# Altium integrated library Altium_WCAP-ASLL (rev20b).IntLib: 95 symbols (part 2 of 2)
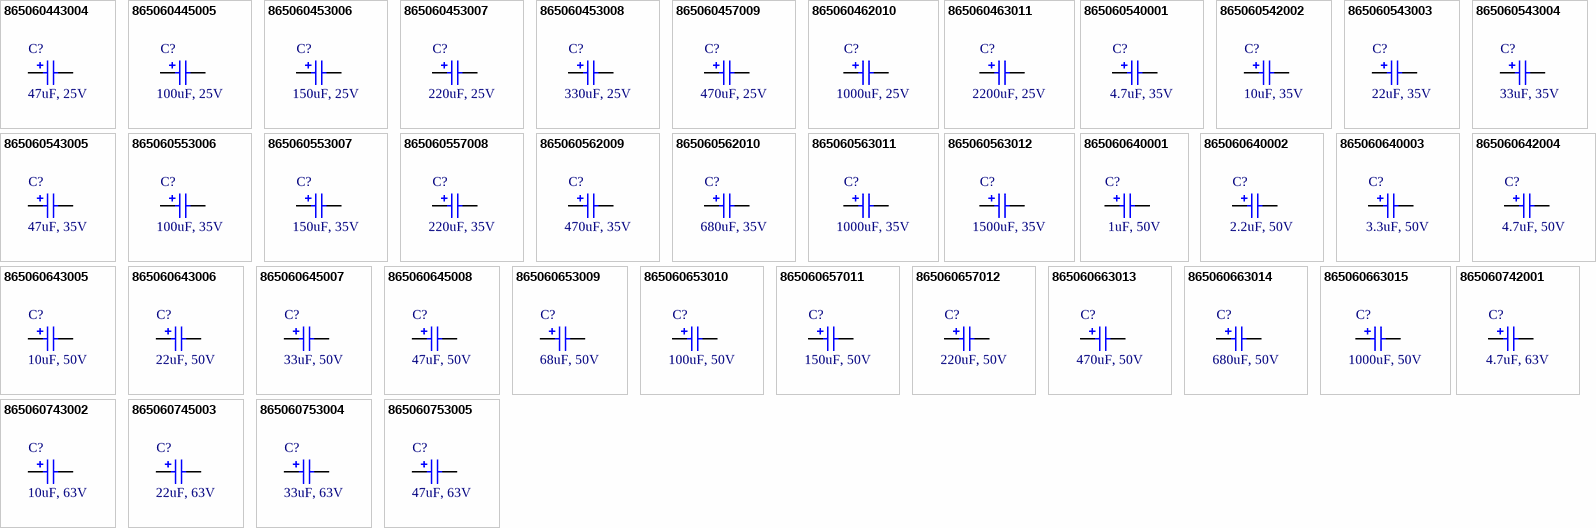
[diagram p3: symbols 865060443004 to 865060753005]

## 865060640002
designator C?, comment 2.2uF, 50V
WCAP-ASLL Aluminum Electrolytic Capacitor, V-Chip, SMT, D4xH5.5mm, 2.2uF, 50V; Manufacturer Part Number: 865060640002; Manufacturer: Wurth Elektronik; Technical Reference: ASEB0552R2M050DVCTAB000; Ripple Current: 60mA; Capacitance Tolerance: +/-20%; Rated Voltage: 50VDC; Dissipation Factor: 12%; Endurance: 2000h; Leakage Current: 3uA; Operating Temperature: -55 to +105degC; Mounting Technology: SMT; ComponentLink1URL: http://www.we-online.de; ComponentLink1Description: Manufacturer; Packaging: Tape and Reel; Published Date: October 2020; ComponentLink2Description: Datasheet; ComponentLink2URL: https://www.we-online.com/catalog/datasheet/865060640002.pdf; Diameter: 4mm; Capacitance: 2.2uF; Height: 5.5mm
footprint WCAP-ASLL_D4H5.5
pins: 1 P, 2 N

## 865060640003
designator C?, comment 3.3uF, 50V
WCAP-ASLL Aluminum Electrolytic Capacitor, V-Chip, SMT, D4xH5.5mm, 3.3uF, 50V; Manufacturer Part Number: 865060640003; Manufacturer: Wurth Elektronik; Technical Reference: ASEB0553R3M050DVCTAB000; Ripple Current: 60mA; Capacitance Tolerance: +/-20%; Rated Voltage: 50VDC; Dissipation Factor: 12%; Endurance: 2000h; Leakage Current: 3uA; Operating Temperature: -55 to +105degC; Mounting Technology: SMT; ComponentLink1URL: http://www.we-online.de; ComponentLink1Description: Manufacturer; Packaging: Tape and Reel; Published Date: October 2020; ComponentLink2Description: Datasheet; ComponentLink2URL: https://www.we-online.com/catalog/datasheet/865060640003.pdf; Diameter: 4mm; Capacitance: 3.3uF; Height: 5.5mm
footprint WCAP-ASLL_D4H5.5
pins: 1 P, 2 N

## 865060642004
designator C?, comment 4.7uF, 50V
WCAP-ASLL Aluminum Electrolytic Capacitor, V-Chip, SMT, D5xH5.5mm, 4.7uF, 50V; Manufacturer Part Number: 865060642004; Manufacturer: Wurth Elektronik; Technical Reference: ASEC0554R7M050DVCTBB000; Ripple Current: 85mA; Capacitance Tolerance: +/-20%; Rated Voltage: 50VDC; Dissipation Factor: 12%; Endurance: 2000h; Leakage Current: 3uA; Operating Temperature: -55 to +105degC; Mounting Technology: SMT; ComponentLink1URL: http://www.we-online.de; ComponentLink1Description: Manufacturer; Packaging: Tape and Reel; Published Date: October 2020; ComponentLink2Description: Datasheet; ComponentLink2URL: https://www.we-online.com/catalog/datasheet/865060642004.pdf; Diameter: 5mm; Capacitance: 4.7uF; Height: 5.5mm
footprint WCAP-ASLL_D5H5.5
pins: 1 P, 2 N

## 865060643005
designator C?, comment 10uF, 50V
WCAP-ASLL Aluminum Electrolytic Capacitor, V-Chip, SMT, D6.3xH5.5mm, 10uF, 50V; Manufacturer Part Number: 865060643005; Manufacturer: Wurth Elektronik; Technical Reference: ASED055100M050DVCTBB000; Ripple Current: 165mA; Capacitance Tolerance: +/-20%; Rated Voltage: 50VDC; Dissipation Factor: 12%; Endurance: 2000h; Leakage Current: 5uA; Operating Temperature: -55 to +105degC; Mounting Technology: SMT; ComponentLink1URL: http://www.we-online.de; ComponentLink1Description: Manufacturer; Packaging: Tape and Reel; Published Date: October 2020; ComponentLink2Description: Datasheet; ComponentLink2URL: https://www.we-online.com/catalog/datasheet/865060643005.pdf; Diameter: 6.3mm; Capacitance: 10uF; Height: 5.5mm
footprint WCAP-ASLL_D6.3H5.5
pins: 1 P, 2 N

## 865060643006
designator C?, comment 22uF, 50V
WCAP-ASLL Aluminum Electrolytic Capacitor, V-Chip, SMT, D6.3xH5.5mm, 22uF, 50V; Manufacturer Part Number: 865060643006; Manufacturer: Wurth Elektronik; Technical Reference: ASED055220M050DVCTBB000; Ripple Current: 165mA; Capacitance Tolerance: +/-20%; Rated Voltage: 50VDC; Dissipation Factor: 12%; Endurance: 2000h; Leakage Current: 11uA; Operating Temperature: -55 to +105degC; Mounting Technology: SMT; ComponentLink1URL: http://www.we-online.de; ComponentLink1Description: Manufacturer; Packaging: Tape and Reel; Published Date: October 2020; ComponentLink2Description: Datasheet; ComponentLink2URL: https://www.we-online.com/catalog/datasheet/865060643006.pdf; Diameter: 6.3mm; Capacitance: 22uF; Height: 5.5mm
footprint WCAP-ASLL_D6.3H5.5
pins: 1 P, 2 N

## 865060645007
designator C?, comment 33uF, 50V
WCAP-ASLL Aluminum Electrolytic Capacitor, V-Chip, SMT, D6.3xH7.7mm, 33uF, 50V; Manufacturer Part Number: 865060645007; Manufacturer: Wurth Elektronik; Technical Reference: ASED077330M050DVCTCB000; Ripple Current: 185mA; Capacitance Tolerance: +/-20%; Rated Voltage: 50VDC; Dissipation Factor: 12%; Endurance: 2000h; Leakage Current: 16.5uA; Operating Temperature: -55 to +105degC; Mounting Technology: SMT; ComponentLink1URL: http://www.we-online.de; ComponentLink1Description: Manufacturer; Packaging: Tape and Reel; Published Date: October 2020; ComponentLink2Description: Datasheet; ComponentLink2URL: https://www.we-online.com/catalog/datasheet/865060645007.pdf; Diameter: 6.3mm; Capacitance: 33uF; Height: 7.7mm
footprint WCAP-ASLL_D6.3H7.7
pins: 1 P, 2 N

## 865060645008
designator C?, comment 47uF, 50V
WCAP-ASLL Aluminum Electrolytic Capacitor, V-Chip, SMT, D6.3xH7.7mm, 47uF, 50V; Manufacturer Part Number: 865060645008; Manufacturer: Wurth Elektronik; Technical Reference: ASED077470M050DVCTCB000; Ripple Current: 185mA; Capacitance Tolerance: +/-20%; Rated Voltage: 50VDC; Dissipation Factor: 12%; Endurance: 2000h; Leakage Current: 23.5uA; Operating Temperature: -55 to +105degC; Mounting Technology: SMT; ComponentLink1URL: http://www.we-online.de; ComponentLink1Description: Manufacturer; Packaging: Tape and Reel; Published Date: October 2020; ComponentLink2Description: Datasheet; ComponentLink2URL: https://www.we-online.com/catalog/datasheet/865060645008.pdf; Diameter: 6.3mm; Capacitance: 47uF; Height: 7.7mm
footprint WCAP-ASLL_D6.3H7.7
pins: 1 P, 2 N

## 865060653009
designator C?, comment 68uF, 50V
WCAP-ASLL Aluminum Electrolytic Capacitor, V-Chip, SMT, D8xH10.5mm, 68uF, 50V; Manufacturer Part Number: 865060653009; Manufacturer: Wurth Elektronik; Technical Reference: ASEE105680M050DVCTEE000; Ripple Current: 300mA; Capacitance Tolerance: +/-20%; Rated Voltage: 50VDC; Dissipation Factor: 12%; Endurance: 5000h; Leakage Current: 34uA; Operating Temperature: -55 to +105degC; Mounting Technology: SMT; ComponentLink1URL: http://www.we-online.de; ComponentLink1Description: Manufacturer; Packaging: Tape and Reel; Published Date: October 2020; ComponentLink2Description: Datasheet; ComponentLink2URL: https://www.we-online.com/catalog/datasheet/865060653009.pdf; Diameter: 8mm; Capacitance: 68uF; Height: 10.5mm
footprint WCAP-ASLL_D8H10.5
pins: 1 P, 2 N

## 865060653010
designator C?, comment 100uF, 50V
WCAP-ASLL Aluminum Electrolytic Capacitor, V-Chip, SMT, D8xH10.5mm, 100uF, 50V; Manufacturer Part Number: 865060653010; Manufacturer: Wurth Elektronik; Technical Reference: ASEE105101M050DVCTEE000; Ripple Current: 350mA; Capacitance Tolerance: +/-20%; Rated Voltage: 50VDC; Dissipation Factor: 12%; Endurance: 5000h; Leakage Current: 50uA; Operating Temperature: -55 to +105degC; Mounting Technology: SMT; ComponentLink1URL: http://www.we-online.de; ComponentLink1Description: Manufacturer; Packaging: Tape and Reel; Published Date: October 2020; ComponentLink2Description: Datasheet; ComponentLink2URL: https://www.we-online.com/catalog/datasheet/865060653010.pdf; Diameter: 8mm; Capacitance: 100uF; Height: 10.5mm
footprint WCAP-ASLL_D8H10.5
pins: 1 P, 2 N

## 865060657011
designator C?, comment 150uF, 50V
WCAP-ASLL Aluminum Electrolytic Capacitor, V-Chip, SMT, D10xH10.5mm, 150uF, 50V; Manufacturer Part Number: 865060657011; Manufacturer: Wurth Elektronik; Technical Reference: ASEF105151M050DVCTEE000; Ripple Current: 555mA; Capacitance Tolerance: +/-20%; Rated Voltage: 50VDC; Dissipation Factor: 12%; Endurance: 5000h; Leakage Current: 75uA; Operating Temperature: -55 to +105degC; Mounting Technology: SMT; ComponentLink1URL: http://www.we-online.de; ComponentLink1Description: Manufacturer; Packaging: Tape and Reel; Published Date: October 2020; ComponentLink2Description: Datasheet; ComponentLink2URL: https://www.we-online.com/catalog/datasheet/865060657011.pdf; Diameter: 10mm; Capacitance: 150uF; Height: 10.5mm
footprint WCAP-ASLL_D10H10.5
pins: 1 P, 2 N

## 865060657012
designator C?, comment 220uF, 50V
WCAP-ASLL Aluminum Electrolytic Capacitor, V-Chip, SMT, D10xH10.5mm, 220uF, 50V; Manufacturer Part Number: 865060657012; Manufacturer: Wurth Elektronik; Technical Reference: ASEF105221M050DVCTEE000; Ripple Current: 600mA; Capacitance Tolerance: +/-20%; Rated Voltage: 50VDC; Dissipation Factor: 12%; Endurance: 5000h; Leakage Current: 110uA; Operating Temperature: -55 to +105degC; Mounting Technology: SMT; ComponentLink1URL: http://www.we-online.de; ComponentLink1Description: Manufacturer; Packaging: Tape and Reel; Published Date: October 2020; ComponentLink2Description: Datasheet; ComponentLink2URL: https://www.we-online.com/catalog/datasheet/865060657012.pdf; Diameter: 10mm; Capacitance: 220uF; Height: 10.5mm
footprint WCAP-ASLL_D10H10.5
pins: 1 P, 2 N

## 865060663013
designator C?, comment 470uF, 50V
WCAP-ASLL Aluminum Electrolytic Capacitor, V-Chip, SMT, D16xH17mm, 470uF, 50V; Manufacturer Part Number: 865060663013; Manufacturer: Wurth Elektronik; Technical Reference: ASEK170471M050DVCTHE000; Ripple Current: 1610mA; Capacitance Tolerance: +/-20%; Rated Voltage: 50VDC; Dissipation Factor: 12%; Endurance: 5000h; Leakage Current: 235uA; Operating Temperature: -55 to +105degC; Mounting Technology: SMT; ComponentLink1URL: http://www.we-online.de; ComponentLink1Description: Manufacturer; Packaging: Tape and Reel; Published Date: October 2020; ComponentLink2Description: Datasheet; ComponentLink2URL: https://www.we-online.com/catalog/datasheet/865060663013.pdf; Diameter: 16mm; Capacitance: 470uF; Height: 17mm
footprint WCAP-ASLL_D16H17
pins: 1 P, 2 N

## 865060663014
designator C?, comment 680uF, 50V
WCAP-ASLL Aluminum Electrolytic Capacitor, V-Chip, SMT, D16xH17mm, 680uF, 50V; Manufacturer Part Number: 865060663014; Manufacturer: Wurth Elektronik; Technical Reference: ASEK170681M050DVCTHE000; Ripple Current: 1610mA; Capacitance Tolerance: +/-20%; Rated Voltage: 50VDC; Dissipation Factor: 12%; Endurance: 5000h; Leakage Current: 340uA; Operating Temperature: -55 to +105degC; Mounting Technology: SMT; ComponentLink1URL: http://www.we-online.de; ComponentLink1Description: Manufacturer; Packaging: Tape and Reel; Published Date: October 2020; ComponentLink2Description: Datasheet; ComponentLink2URL: https://www.we-online.com/catalog/datasheet/865060663014.pdf; Diameter: 16mm; Capacitance: 680uF; Height: 17mm
footprint WCAP-ASLL_D16H17
pins: 1 P, 2 N

## 865060663015
designator C?, comment 1000uF, 50V
WCAP-ASLL Aluminum Electrolytic Capacitor, V-Chip, SMT, D16xH17mm, 1000uF, 50V; Manufacturer Part Number: 865060663015; Manufacturer: Wurth Elektronik; Technical Reference: ASEK170102M050DVCTHE000; Ripple Current: 1610mA; Capacitance Tolerance: +/-20%; Rated Voltage: 50VDC; Dissipation Factor: 12%; Endurance: 5000h; Leakage Current: 500uA; Operating Temperature: -55 to +105degC; Mounting Technology: SMT; ComponentLink1URL: http://www.we-online.de; ComponentLink1Description: Manufacturer; Packaging: Tape and Reel; Published Date: October 2020; ComponentLink2Description: Datasheet; ComponentLink2URL: https://www.we-online.com/catalog/datasheet/865060663015.pdf; Diameter: 16mm; Capacitance: 1000uF; Height: 17mm
footprint WCAP-ASLL_D16H17
pins: 1 P, 2 N

## 865060742001
designator C?, comment 4.7uF, 63V
WCAP-ASLL Aluminum Electrolytic Capacitor, V-Chip, SMT, D5xH5.5mm, 4.7uF, 63V; Manufacturer Part Number: 865060742001; Manufacturer: Wurth Elektronik; Technical Reference: ASEC0554R7M063DVCTBB000; Ripple Current: 50mA; Capacitance Tolerance: +/-20%; Rated Voltage: 63VDC; Dissipation Factor: 10%; Endurance: 2000h; Leakage Current: 3uA; Operating Temperature: -55 to +105degC; Mounting Technology: SMT; ComponentLink1URL: http://www.we-online.de; ComponentLink1Description: Manufacturer; Packaging: Tape and Reel; Published Date: October 2020; ComponentLink2Description: Datasheet; ComponentLink2URL: https://www.we-online.com/catalog/datasheet/865060742001.pdf; Diameter: 5mm; Capacitance: 4.7uF; Height: 5.5mm
footprint WCAP-ASLL_D5H5.5
pins: 1 P, 2 N

## 865060743002
designator C?, comment 10uF, 63V
WCAP-ASLL Aluminum Electrolytic Capacitor, V-Chip, SMT, D6.3xH5.5mm, 10uF, 63V; Manufacturer Part Number: 865060743002; Manufacturer: Wurth Elektronik; Technical Reference: ASED055100M063DVCTBB000; Ripple Current: 80mA; Capacitance Tolerance: +/-20%; Rated Voltage: 63VDC; Dissipation Factor: 10%; Endurance: 2000h; Leakage Current: 6.3uA; Operating Temperature: -55 to +105degC; Mounting Technology: SMT; ComponentLink1URL: http://www.we-online.de; ComponentLink1Description: Manufacturer; Packaging: Tape and Reel; Published Date: October 2020; ComponentLink2Description: Datasheet; ComponentLink2URL: https://www.we-online.com/catalog/datasheet/865060743002.pdf; Diameter: 6.3mm; Capacitance: 10uF; Height: 5.5mm
footprint WCAP-ASLL_D6.3H5.5
pins: 1 P, 2 N

## 865060745003
designator C?, comment 22uF, 63V
WCAP-ASLL Aluminum Electrolytic Capacitor, V-Chip, SMT, D6.3xH7.7mm, 22uF, 63V; Manufacturer Part Number: 865060745003; Manufacturer: Wurth Elektronik; Technical Reference: ASED077220M063DVCTCB000; Ripple Current: 120mA; Capacitance Tolerance: +/-20%; Rated Voltage: 63VDC; Dissipation Factor: 10%; Endurance: 2000h; Leakage Current: 13.86uA; Operating Temperature: -55 to +105degC; Mounting Technology: SMT; ComponentLink1URL: http://www.we-online.de; ComponentLink1Description: Manufacturer; Packaging: Tape and Reel; Published Date: October 2020; ComponentLink2Description: Datasheet; ComponentLink2URL: https://www.we-online.com/catalog/datasheet/865060745003.pdf; Diameter: 6.3mm; Capacitance: 22uF; Height: 7.7mm
footprint WCAP-ASLL_D6.3H7.7
pins: 1 P, 2 N

## 865060753004
designator C?, comment 33uF, 63V
WCAP-ASLL Aluminum Electrolytic Capacitor, V-Chip, SMT, D8xH10.5mm, 33uF, 63V; Manufacturer Part Number: 865060753004; Manufacturer: Wurth Elektronik; Technical Reference: ASEE105330M063DVCTEE000; Ripple Current: 250mA; Capacitance Tolerance: +/-20%; Rated Voltage: 63VDC; Dissipation Factor: 10%; Endurance: 5000h; Leakage Current: 20.79uA; Operating Temperature: -55 to +105degC; Mounting Technology: SMT; ComponentLink1URL: http://www.we-online.de; ComponentLink1Description: Manufacturer; Packaging: Tape and Reel; Published Date: October 2020; ComponentLink2Description: Datasheet; ComponentLink2URL: https://www.we-online.com/catalog/datasheet/865060753004.pdf; Diameter: 8mm; Capacitance: 33uF; Height: 10.5mm
footprint WCAP-ASLL_D8H10.5
pins: 1 P, 2 N

## 865060753005
designator C?, comment 47uF, 63V
WCAP-ASLL Aluminum Electrolytic Capacitor, V-Chip, SMT, D8xH10.5mm, 47uF, 63V; Manufacturer Part Number: 865060753005; Manufacturer: Wurth Elektronik; Technical Reference: ASEE105470M063DVCTEE000; Ripple Current: 280mA; Capacitance Tolerance: +/-20%; Rated Voltage: 63VDC; Dissipation Factor: 10%; Endurance: 5000h; Leakage Current: 29.61uA; Operating Temperature: -55 to +105degC; Mounting Technology: SMT; ComponentLink1URL: http://www.we-online.de; ComponentLink1Description: Manufacturer; Packaging: Tape and Reel; Published Date: October 2020; ComponentLink2Description: Datasheet; ComponentLink2URL: https://www.we-online.com/catalog/datasheet/865060753005.pdf; Diameter: 8mm; Capacitance: 47uF; Height: 10.5mm
footprint WCAP-ASLL_D8H10.5
pins: 1 P, 2 N

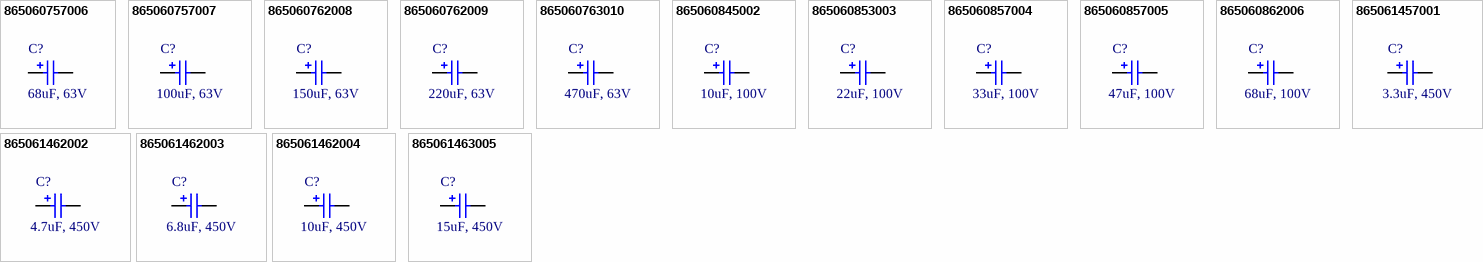
[diagram p2: symbols 865060757006 to 865061463005]

## 865060757006
designator C?, comment 68uF, 63V
WCAP-ASLL Aluminum Electrolytic Capacitor, V-Chip, SMT, D10xH10.5mm, 68uF, 63V; Manufacturer Part Number: 865060757006; Manufacturer: Wurth Elektronik; Technical Reference: ASEF105680M063DVCTEE000; Ripple Current: 400mA; Capacitance Tolerance: +/-20%; Rated Voltage: 63VDC; Dissipation Factor: 10%; Endurance: 5000h; Leakage Current: 42.84uA; Operating Temperature: -55 to +105degC; Mounting Technology: SMT; ComponentLink1URL: http://www.we-online.de; ComponentLink1Description: Manufacturer; Packaging: Tape and Reel; Published Date: October 2020; ComponentLink2Description: Datasheet; ComponentLink2URL: https://www.we-online.com/catalog/datasheet/865060757006.pdf; Diameter: 10mm; Capacitance: 68uF; Height: 10.5mm
footprint WCAP-ASLL_D10H10.5
pins: 1 P, 2 N

## 865060757007
designator C?, comment 100uF, 63V
WCAP-ASLL Aluminum Electrolytic Capacitor, V-Chip, SMT, D10xH10.5mm, 100uF, 63V; Manufacturer Part Number: 865060757007; Manufacturer: Wurth Elektronik; Technical Reference: ASEF105101M063DVCTEE000; Ripple Current: 420mA; Capacitance Tolerance: +/-20%; Rated Voltage: 63VDC; Dissipation Factor: 10%; Endurance: 5000h; Leakage Current: 63uA; Operating Temperature: -55 to +105degC; Mounting Technology: SMT; ComponentLink1URL: http://www.we-online.de; ComponentLink1Description: Manufacturer; Packaging: Tape and Reel; Published Date: October 2020; ComponentLink2Description: Datasheet; ComponentLink2URL: https://www.we-online.com/catalog/datasheet/865060757007.pdf; Diameter: 10mm; Capacitance: 100uF; Height: 10.5mm
footprint WCAP-ASLL_D10H10.5
pins: 1 P, 2 N

## 865060762008
designator C?, comment 150uF, 63V
WCAP-ASLL Aluminum Electrolytic Capacitor, V-Chip, SMT, D12.5xH14mm, 150uF, 63V; Manufacturer Part Number: 865060762008; Manufacturer: Wurth Elektronik; Technical Reference: ASEH140151M063DVCTGE000; Ripple Current: 800mA; Capacitance Tolerance: +/-20%; Rated Voltage: 63VDC; Dissipation Factor: 10%; Endurance: 5000h; Leakage Current: 94.5uA; Operating Temperature: -55 to +105degC; Mounting Technology: SMT; ComponentLink1URL: http://www.we-online.de; ComponentLink1Description: Manufacturer; Packaging: Tape and Reel; Published Date: October 2020; ComponentLink2Description: Datasheet; ComponentLink2URL: https://www.we-online.com/catalog/datasheet/865060762008.pdf; Diameter: 12.5mm; Capacitance: 150uF; Height: 14mm
footprint WCAP-ASLL_D12.5H14
pins: 1 P, 2 N

## 865060762009
designator C?, comment 220uF, 63V
WCAP-ASLL Aluminum Electrolytic Capacitor, V-Chip, SMT, D12.5xH14mm, 220uF, 63V; Manufacturer Part Number: 865060762009; Manufacturer: Wurth Elektronik; Technical Reference: ASEH140221M063DVCTGE000; Ripple Current: 830mA; Capacitance Tolerance: +/-20%; Rated Voltage: 63VDC; Dissipation Factor: 10%; Endurance: 5000h; Leakage Current: 138.6uA; Operating Temperature: -55 to +105degC; Mounting Technology: SMT; ComponentLink1URL: http://www.we-online.de; ComponentLink1Description: Manufacturer; Packaging: Tape and Reel; Published Date: October 2020; ComponentLink2Description: Datasheet; ComponentLink2URL: https://www.we-online.com/catalog/datasheet/865060762009.pdf; Diameter: 12.5mm; Capacitance: 220uF; Height: 14mm
footprint WCAP-ASLL_D12.5H14
pins: 1 P, 2 N

## 865060763010
designator C?, comment 470uF, 63V
WCAP-ASLL Aluminum Electrolytic Capacitor, V-Chip, SMT, D16xH17mm, 470uF, 63V; Manufacturer Part Number: 865060763010; Manufacturer: Wurth Elektronik; Technical Reference: ASEK170471M063DVCTHE000; Ripple Current: 1410mA; Capacitance Tolerance: +/-20%; Rated Voltage: 63VDC; Dissipation Factor: 10%; Endurance: 5000h; Leakage Current: 296.1uA; Operating Temperature: -55 to +105degC; Mounting Technology: SMT; ComponentLink1URL: http://www.we-online.de; ComponentLink1Description: Manufacturer; Packaging: Tape and Reel; Published Date: October 2020; ComponentLink2Description: Datasheet; ComponentLink2URL: https://www.we-online.com/catalog/datasheet/865060763010.pdf; Diameter: 16mm; Capacitance: 470uF; Height: 17mm
footprint WCAP-ASLL_D16H17
pins: 1 P, 2 N

## 865060845002
designator C?, comment 10uF, 100V
WCAP-ASLL Aluminum Electrolytic Capacitor, V-Chip, SMT, D6.3xH7.7mm, 10uF, 100V; Manufacturer Part Number: 865060845002; Manufacturer: Wurth Elektronik; Technical Reference: ASED077100M100DVCTCB000; Ripple Current: 65mA; Capacitance Tolerance: +/-20%; Rated Voltage: 100VDC; Dissipation Factor: 8%; Endurance: 2000h; Leakage Current: 10uA; Operating Temperature: -55 to +105degC; Mounting Technology: SMT; ComponentLink1URL: http://www.we-online.de; ComponentLink1Description: Manufacturer; Packaging: Tape and Reel; Published Date: October 2020; ComponentLink2Description: Datasheet; ComponentLink2URL: https://www.we-online.com/catalog/datasheet/865060845002.pdf; Diameter: 6.3mm; Capacitance: 10uF; Height: 7.7mm
footprint WCAP-ASLL_D6.3H7.7
pins: 1 P, 2 N

## 865060853003
designator C?, comment 22uF, 100V
WCAP-ASLL Aluminum Electrolytic Capacitor, V-Chip, SMT, D8xH10.5mm, 22uF, 100V; Manufacturer Part Number: 865060853003; Manufacturer: Wurth Elektronik; Technical Reference: ASEE105220M100DVCTEE000; Ripple Current: 130mA; Capacitance Tolerance: +/-20%; Rated Voltage: 100VDC; Dissipation Factor: 8%; Endurance: 5000h; Leakage Current: 22uA; Operating Temperature: -55 to +105degC; Mounting Technology: SMT; ComponentLink1URL: http://www.we-online.de; ComponentLink1Description: Manufacturer; Packaging: Tape and Reel; Published Date: October 2020; ComponentLink2Description: Datasheet; ComponentLink2URL: https://www.we-online.com/catalog/datasheet/865060853003.pdf; Diameter: 8mm; Capacitance: 22uF; Height: 10.5mm
footprint WCAP-ASLL_D8H10.5
pins: 1 P, 2 N

## 865060857004
designator C?, comment 33uF, 100V
WCAP-ASLL Aluminum Electrolytic Capacitor, V-Chip, SMT, D10xH10.5mm, 33uF, 100V; Manufacturer Part Number: 865060857004; Manufacturer: Wurth Elektronik; Technical Reference: ASEF105330M100DVCTEE000; Ripple Current: 200mA; Capacitance Tolerance: +/-20%; Rated Voltage: 100VDC; Dissipation Factor: 8%; Endurance: 5000h; Leakage Current: 33uA; Operating Temperature: -55 to +105degC; Mounting Technology: SMT; ComponentLink1URL: http://www.we-online.de; ComponentLink1Description: Manufacturer; Packaging: Tape and Reel; Published Date: October 2020; ComponentLink2Description: Datasheet; ComponentLink2URL: https://www.we-online.com/catalog/datasheet/865060857004.pdf; Diameter: 10mm; Capacitance: 33uF; Height: 10.5mm
footprint WCAP-ASLL_D10H10.5
pins: 1 P, 2 N

## 865060857005
designator C?, comment 47uF, 100V
WCAP-ASLL Aluminum Electrolytic Capacitor, V-Chip, SMT, D10xH10.5mm, 47uF, 100V; Manufacturer Part Number: 865060857005; Manufacturer: Wurth Elektronik; Technical Reference: ASEF105470M100DVCTEE000; Ripple Current: 390mA; Capacitance Tolerance: +/-20%; Rated Voltage: 100VDC; Dissipation Factor: 8%; Endurance: 5000h; Leakage Current: 47uA; Operating Temperature: -55 to +105degC; Mounting Technology: SMT; ComponentLink1URL: http://www.we-online.de; ComponentLink1Description: Manufacturer; Packaging: Tape and Reel; Published Date: October 2020; ComponentLink2Description: Datasheet; ComponentLink2URL: https://www.we-online.com/catalog/datasheet/865060857005.pdf; Diameter: 10mm; Capacitance: 47uF; Height: 10.5mm
footprint WCAP-ASLL_D10H10.5
pins: 1 P, 2 N

## 865060862006
designator C?, comment 68uF, 100V
WCAP-ASLL Aluminum Electrolytic Capacitor, V-Chip, SMT, D12.5xH14mm, 68uF, 100V; Manufacturer Part Number: 865060862006; Manufacturer: Wurth Elektronik; Technical Reference: ASEH140680M100DVCTGE000; Ripple Current: 600mA; Capacitance Tolerance: +/-20%; Rated Voltage: 100VDC; Dissipation Factor: 8%; Endurance: 5000h; Leakage Current: 68uA; Operating Temperature: -55 to +105degC; Mounting Technology: SMT; ComponentLink1URL: http://www.we-online.de; ComponentLink1Description: Manufacturer; Packaging: Tape and Reel; Published Date: October 2020; ComponentLink2Description: Datasheet; ComponentLink2URL: https://www.we-online.com/catalog/datasheet/865060862006.pdf; Diameter: 12.5mm; Capacitance: 68uF; Height: 14mm
footprint WCAP-ASLL_D12.5H14
pins: 1 P, 2 N

## 865061457001
designator C?, comment 3.3uF, 450V
WCAP-ASLL Aluminum Electrolytic Capacitor, V-Chip, SMT, D10xH10.5mm, 3.3uF, 450V; Manufacturer Part Number: 865061457001; Manufacturer: Wurth Elektronik; Technical Reference: ASDF1053R3M450DVCTEE000; Ripple Current: 40mA; Capacitance Tolerance: +/-20%; Rated Voltage: 450VDC; Dissipation Factor: 20%; Endurance: 5000h; Leakage Current: 114.85uA; Operating Temperature: -40 to +105degC; Mounting Technology: SMT; ComponentLink1URL: http://www.we-online.de; ComponentLink1Description: Manufacturer; Packaging: Tape and Reel; Published Date: October 2020; ComponentLink2Description: Datasheet; ComponentLink2URL: https://www.we-online.com/catalog/datasheet/865061457001.pdf; Diameter: 10mm; Capacitance: 3.3uF; Height: 10.5mm
footprint WCAP-ASLL_D10H10.5
pins: 1 P, 2 N

## 865061462002
designator C?, comment 4.7uF, 450V
WCAP-ASLL Aluminum Electrolytic Capacitor, V-Chip, SMT, D12.5xH14mm, 4.7uF, 450V; Manufacturer Part Number: 865061462002; Manufacturer: Wurth Elektronik; Technical Reference: ASDH1404R7M450DVCTGE000; Ripple Current: 50mA; Capacitance Tolerance: +/-20%; Rated Voltage: 450VDC; Dissipation Factor: 20%; Endurance: 5000h; Leakage Current: 121.15uA; Operating Temperature: -40 to +105degC; Mounting Technology: SMT; ComponentLink1URL: http://www.we-online.de; ComponentLink1Description: Manufacturer; Packaging: Tape and Reel; Published Date: October 2020; ComponentLink2Description: Datasheet; ComponentLink2URL: https://www.we-online.com/catalog/datasheet/865061462002.pdf; Diameter: 12.5mm; Capacitance: 4.7uF; Height: 14mm
footprint WCAP-ASLL_D12.5H14
pins: 1 P, 2 N

## 865061462003
designator C?, comment 6.8uF, 450V
WCAP-ASLL Aluminum Electrolytic Capacitor, V-Chip, SMT, D12.5xH14mm, 6.8uF, 450V; Manufacturer Part Number: 865061462003; Manufacturer: Wurth Elektronik; Technical Reference: ASDH1406R8M450DVCTGE000; Ripple Current: 60mA; Capacitance Tolerance: +/-20%; Rated Voltage: 450VDC; Dissipation Factor: 20%; Endurance: 5000h; Leakage Current: 130.6uA; Operating Temperature: -40 to +105degC; Mounting Technology: SMT; ComponentLink1URL: http://www.we-online.de; ComponentLink1Description: Manufacturer; Packaging: Tape and Reel; Published Date: October 2020; ComponentLink2Description: Datasheet; ComponentLink2URL: https://www.we-online.com/catalog/datasheet/865061462003.pdf; Diameter: 12.5mm; Capacitance: 6.8uF; Height: 14mm
footprint WCAP-ASLL_D12.5H14
pins: 1 P, 2 N

## 865061462004
designator C?, comment 10uF, 450V
WCAP-ASLL Aluminum Electrolytic Capacitor, V-Chip, SMT, D12.5xH14mm, 10uF, 450V; Manufacturer Part Number: 865061462004; Manufacturer: Wurth Elektronik; Technical Reference: ASDH140100M450DVCTGE000; Ripple Current: 70mA; Capacitance Tolerance: +/-20%; Rated Voltage: 450VDC; Dissipation Factor: 20%; Endurance: 5000h; Leakage Current: 145uA; Operating Temperature: -40 to +105degC; Mounting Technology: SMT; ComponentLink1URL: http://www.we-online.de; ComponentLink1Description: Manufacturer; Packaging: Tape and Reel; Published Date: October 2020; ComponentLink2Description: Datasheet; ComponentLink2URL: https://www.we-online.com/catalog/datasheet/865061462004.pdf; Diameter: 12.5mm; Capacitance: 10uF; Height: 14mm
footprint WCAP-ASLL_D12.5H14
pins: 1 P, 2 N

## 865061463005
designator C?, comment 15uF, 450V
WCAP-ASLL Aluminum Electrolytic Capacitor, V-Chip, SMT, D16xH17mm, 15uF, 450V; Manufacturer Part Number: 865061463005; Manufacturer: Wurth Elektronik; Technical Reference: ASDK170150M450DVCTHE000; Ripple Current: 100mA; Capacitance Tolerance: +/-20%; Rated Voltage: 450VDC; Dissipation Factor: 20%; Endurance: 5000h; Leakage Current: 167.5uA; Operating Temperature: -40 to +105degC; Mounting Technology: SMT; ComponentLink1URL: http://www.we-online.de; ComponentLink1Description: Manufacturer; Packaging: Tape and Reel; Published Date: October 2020; ComponentLink2Description: Datasheet; ComponentLink2URL: https://www.we-online.com/catalog/datasheet/865061463005.pdf; Diameter: 16mm; Capacitance: 15uF; Height: 17mm
footprint WCAP-ASLL_D16H17
pins: 1 P, 2 N